# EAGLE library part 679310124022 (library Wuerth_Elektronik_eiCan_Wire_to_Board_Connectors v1.2)
WR-WTB 1.50mm SMT Male Vertical Shrouded Header, 10 Pins
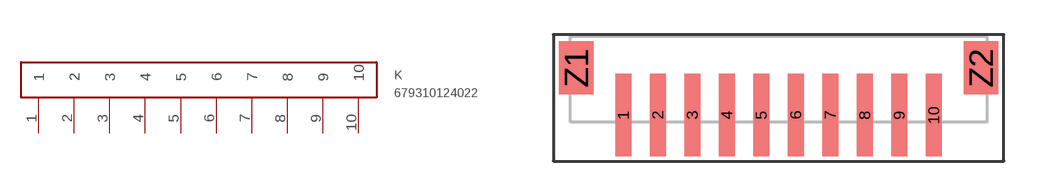
[diagram p48: symbol with the pads of 679310124022; footprint 679310124022]

Designator prefix K

## 679310124022  [679310124022]
1  1
2  2
3  3
4  4
5  5
6  6
7  7
8  8
9  9
10  10

## Footprint 679310124022 (pad centres in mm)
WR-WTB 1.50mm SMT Male Vertical Shrouded Header, 10 Pins
smd 0.7 x 3.6: 1 -0.75,0; 2 0.75,0; 3 2.25,0; 4 3.75,0; 5 5.25,0; 6 6.75,0; 7 8.25,0; 8 9.75,0; 9 11.25,0; 10 12.75,0
smd 1.5 x 2.3: Z1 -2.8,2.05; Z2 14.8,2.05